# EAGLE library part 3SWITCH (library switch)
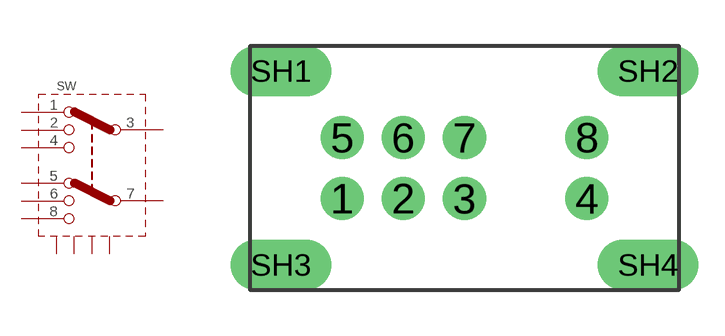
[diagram p0: symbol with the pads of 3SWITCH; footprint 3SWITCH]

Designator prefix SW

## 3SWITCH  [3SWITCH]
1  A1  pas
2  A2  pas
3  AG  pas
4  A3  pas
5  B1  pas
6  B2  pas
7  BG  pas
8  B3  pas
SH1  P$1  pas
SH2  P$2  pas
SH3  P$3  pas
SH4  P$4  pas

## Footprint 3SWITCH (pad centres in mm)
drill 0.9 round: 1 -4,-1; 2 -2,-1; 3 0,-1; 4 4,-1; 5 -4,1; 6 -2,1; 7 0,1; 8 4,1
drill 1.1 long: SH1 -6,3.175; SH2 6,3.175; SH3 -6,-3.175; SH4 6,-3.175